# Altium schematic symbol library LM7805.SchLib: 1 symbol
Pins are listed as number, name and electrical type; pins without a type are passive.

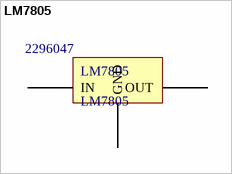
[diagram p0: symbol LM7805]

## LM7805
designator LM7805  Supplier Part Number 1: 2296047
Supplier 1: Farnell
pins: 1 IN, 2 GND, 3 OUT